# EAGLE library part TPS54308 (library BW-Active)
3A FCCM Step-Down Converter
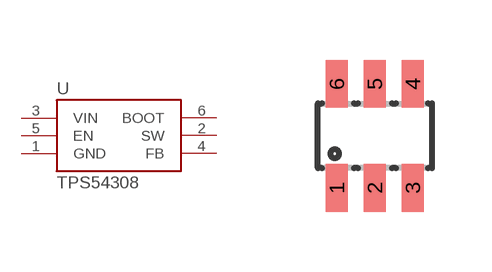
[diagram p14: symbol with the pads of SOT23-6L; footprint SOT23-6L]

Designator prefix U

## TPS54308  [SOT23-6L]
1  GND
2  SW
3  VIN
4  FB
5  EN
6  BOOT

## Footprint SOT23-6L (pad centres in mm)
Small Outline Transistor
smd 0.55 x 1.2: 1 -0.95,-1.3; 2 0,-1.3; 3 0.95,-1.3; 4 0.95,1.3; 5 0,1.3; 6 -0.95,1.3